# Altium schematic symbol library MCU_ST_STM32U5.SchLib: 162 symbols (part 5 of 5)
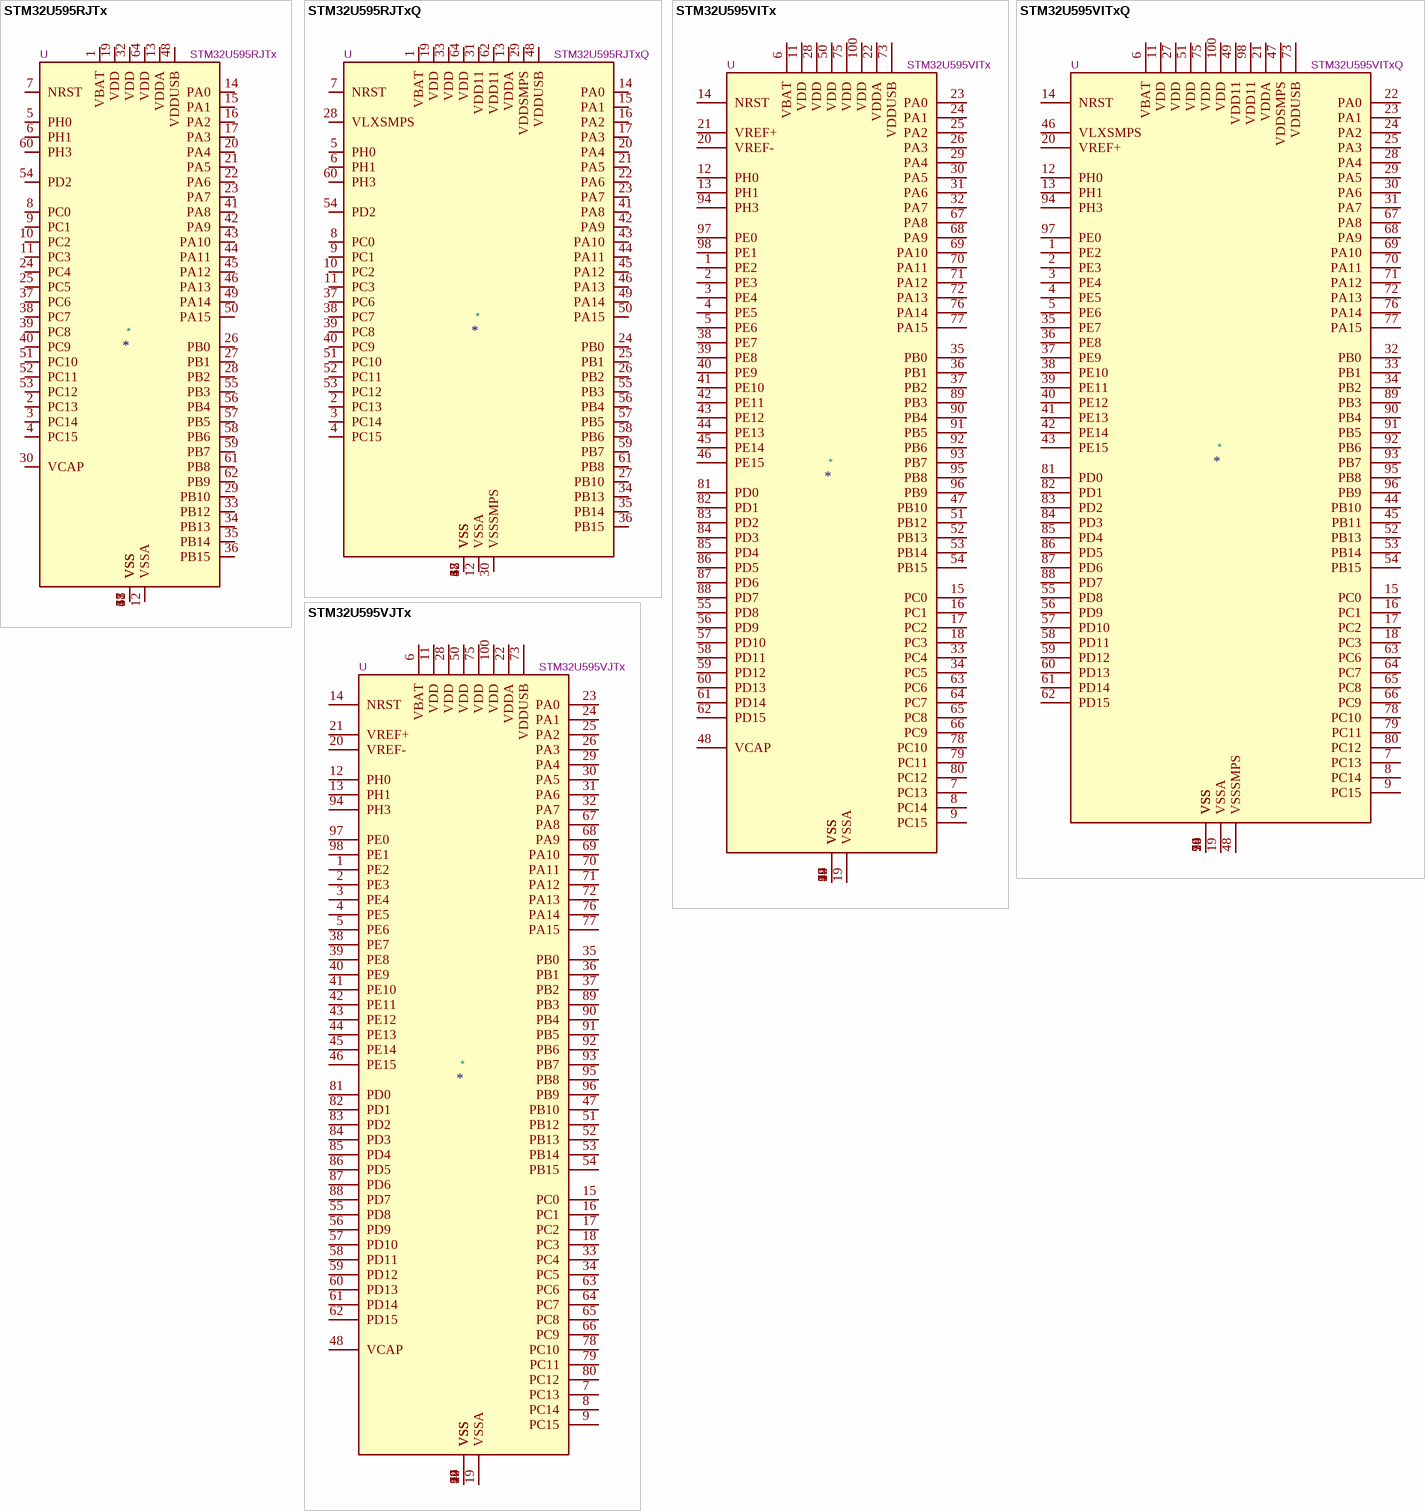
[diagram p44: symbols STM32U595RJTx to STM32U595VJTx]

## STM32U595VJTx
designator *  value STM32U595VJTx  Reference: U
STMicroelectronics Arm Cortex-M33 MCU, 4096KB flash, 2514KB RAM, 82 GPIO, LQFP100; ki_keywords: Arm Cortex-M33 STM32U5 STM32U5x5; ki_fp_filters: LQFP*14x14mm*P0.5mm*; Footprint: Package_QFP:LQFP-100_14x14mm_P0.5mm; Datasheet: https://www.st.com/resource/en/datasheet/stm32u595vj.pdf; Description_: STMicroelectronics Arm Cortex-M33 MCU, 4096KB flash, 2514KB RAM, 82 GPIO, LQFP100
pins: 1 PE2, 2 PE3, 3 PE4, 4 PE5, 5 PE6, 6 VBAT, 7 PC13, 8 PC14, 9 PC15, 10 VSS, 11 VDD, 12 PH0, 13 PH1, 14 NRST, 15 PC0, 16 PC1, 17 PC2, 18 PC3, 19 VSSA, 20 VREF-, 21 VREF+, 22 VDDA, 23 PA0, 24 PA1, 25 PA2, 26 PA3, 27 VSS, 28 VDD, 29 PA4, 30 PA5, 31 PA6, 32 PA7, 33 PC4, 34 PC5, 35 PB0, 36 PB1, 37 PB2, 38 PE7, 39 PE8, 40 PE9, 41 PE10, 42 PE11, 43 PE12, 44 PE13, 45 PE14, 46 PE15, 47 PB10, 48 VCAP, 49 VSS, 50 VDD, 51 PB12, 52 PB13, 53 PB14, 54 PB15, 55 PD8, 56 PD9, 57 PD10, 58 PD11, 59 PD12, 60 PD13, 61 PD14, 62 PD15, 63 PC6, 64 PC7, 65 PC8, 66 PC9, 67 PA8, 68 PA9, 69 PA10, 70 PA11, 71 PA12, 72 PA13, 73 VDDUSB, 74 VSS, 75 VDD, 76 PA14, 77 PA15, 78 PC10, 79 PC11, 80 PC12, 81 PD0, 82 PD1, 83 PD2, 84 PD3, 85 PD4, 86 PD5, 87 PD6, 88 PD7, 89 PB3, 90 PB4, 91 PB5, 92 PB6, 93 PB7, 94 PH3, 95 PB8, 96 PB9, 97 PE0, 98 PE1, 99 VSS, 100 VDD

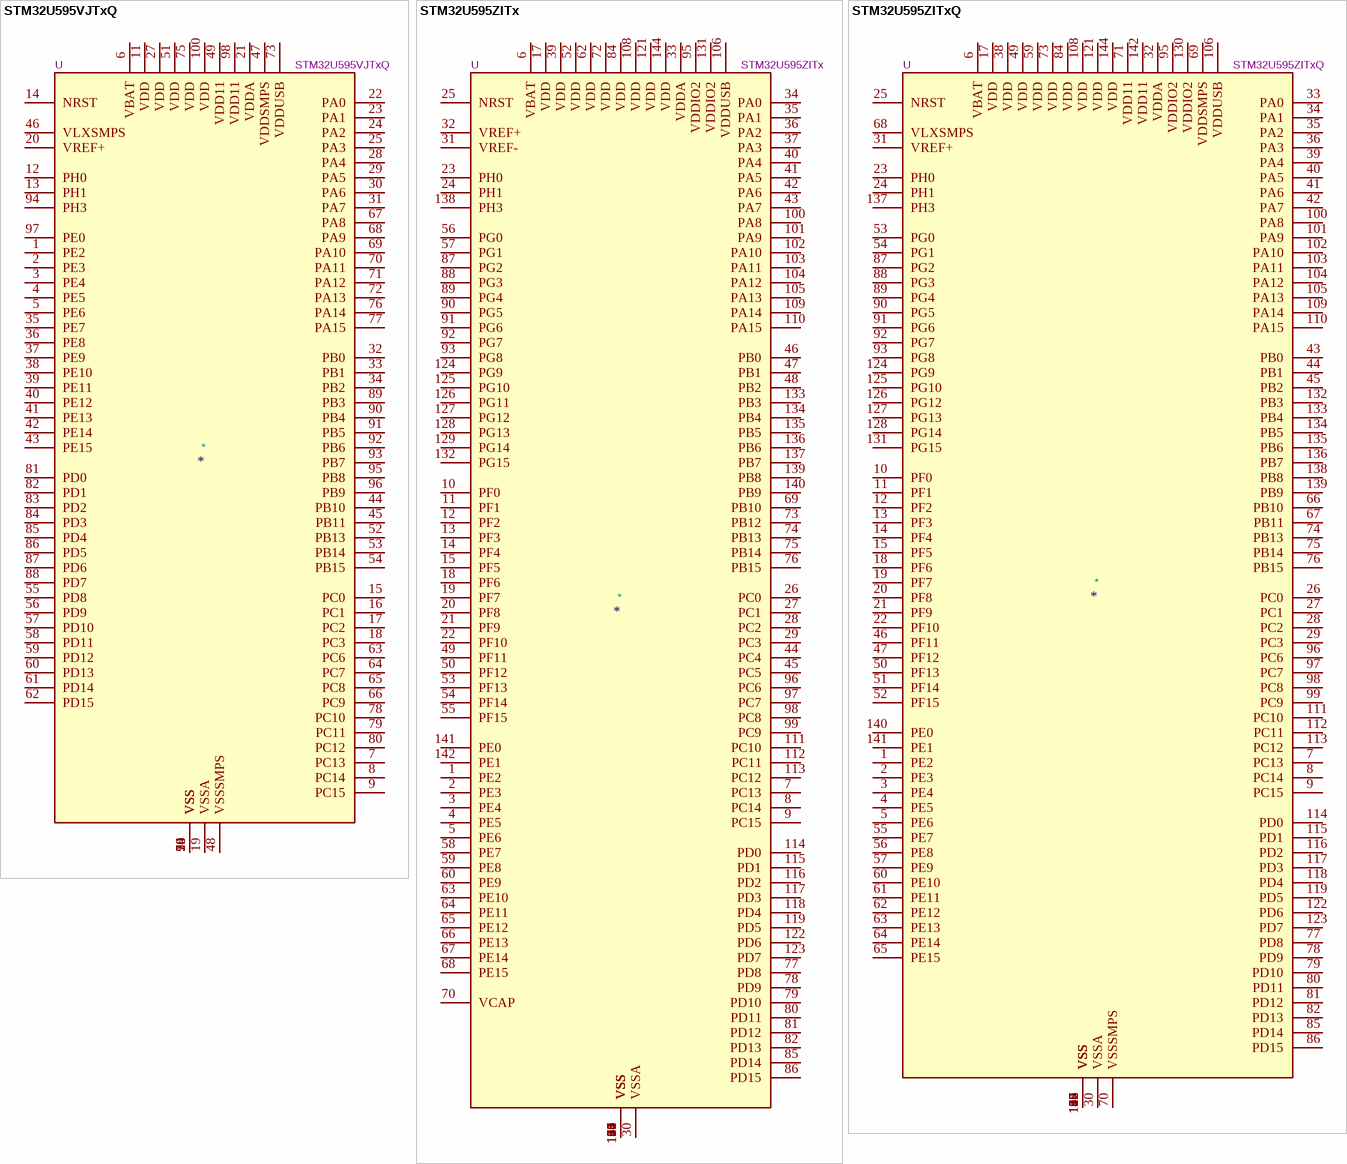
[diagram p34: symbols STM32U595VJTxQ to STM32U595ZITxQ]

## STM32U595VJTxQ
designator *  value STM32U595VJTxQ  Reference: U
STMicroelectronics Arm Cortex-M33 MCU, 4096KB flash, 2514KB RAM, 79 GPIO, LQFP100; ki_keywords: Arm Cortex-M33 STM32U5 STM32U5x5; ki_fp_filters: LQFP*14x14mm*P0.5mm*; Footprint: Package_QFP:LQFP-100_14x14mm_P0.5mm; Datasheet: https://www.st.com/resource/en/datasheet/stm32u595vj.pdf; Description_: STMicroelectronics Arm Cortex-M33 MCU, 4096KB flash, 2514KB RAM, 79 GPIO, LQFP100
pins: 1 PE2, 2 PE3, 3 PE4, 4 PE5, 5 PE6, 6 VBAT, 7 PC13, 8 PC14, 9 PC15, 10 VSS, 11 VDD, 12 PH0, 13 PH1, 14 NRST, 15 PC0, 16 PC1, 17 PC2, 18 PC3, 19 VSSA, 20 VREF+, 21 VDDA, 22 PA0, 23 PA1, 24 PA2, 25 PA3, 26 VSS, 27 VDD, 28 PA4, 29 PA5, 30 PA6, 31 PA7, 32 PB0, 33 PB1, 34 PB2, 35 PE7, 36 PE8, 37 PE9, 38 PE10, 39 PE11, 40 PE12, 41 PE13, 42 PE14, 43 PE15, 44 PB10, 45 PB11, 46 VLXSMPS, 47 VDDSMPS, 48 VSSSMPS, 49 VDD11, 50 VSS, 51 VDD, 52 PB13, 53 PB14, 54 PB15, 55 PD8, 56 PD9, 57 PD10, 58 PD11, 59 PD12, 60 PD13, 61 PD14, 62 PD15, 63 PC6, 64 PC7, 65 PC8, 66 PC9, 67 PA8, 68 PA9, 69 PA10, 70 PA11, 71 PA12, 72 PA13, 73 VDDUSB, 74 VSS, 75 VDD, 76 PA14, 77 PA15, 78 PC10, 79 PC11, 80 PC12, 81 PD0, 82 PD1, 83 PD2, 84 PD3, 85 PD4, 86 PD5, 87 PD6, 88 PD7, 89 PB3, 90 PB4, 91 PB5, 92 PB6, 93 PB7, 94 PH3, 95 PB8, 96 PB9, 97 PE0, 98 VDD11, 99 VSS, 100 VDD

## STM32U595ZITx
designator *  value STM32U595ZITx  Reference: U
STMicroelectronics Arm Cortex-M33 MCU, 2048KB flash, 2514KB RAM, 114 GPIO, LQFP144; ki_keywords: Arm Cortex-M33 STM32U5 STM32U5x5; ki_fp_filters: LQFP*20x20mm*P0.5mm*; Footprint: Package_QFP:LQFP-144_20x20mm_P0.5mm; Datasheet: https://www.st.com/resource/en/datasheet/stm32u595zi.pdf; Description_: STMicroelectronics Arm Cortex-M33 MCU, 2048KB flash, 2514KB RAM, 114 GPIO, LQFP144
pins: 1 PE2, 2 PE3, 3 PE4, 4 PE5, 5 PE6, 6 VBAT, 7 PC13, 8 PC14, 9 PC15, 10 PF0, 11 PF1, 12 PF2, 13 PF3, 14 PF4, 15 PF5, 16 VSS, 17 VDD, 18 PF6, 19 PF7, 20 PF8, 21 PF9, 22 PF10, 23 PH0, 24 PH1, 25 NRST, 26 PC0, 27 PC1, 28 PC2, 29 PC3, 30 VSSA, 31 VREF-, 32 VREF+, 33 VDDA, 34 PA0, 35 PA1, 36 PA2, 37 PA3, 38 VSS, 39 VDD, 40 PA4, 41 PA5, 42 PA6, 43 PA7, 44 PC4, 45 PC5, 46 PB0, 47 PB1, 48 PB2, 49 PF11, 50 PF12, 51 VSS, 52 VDD, 53 PF13, 54 PF14, 55 PF15, 56 PG0, 57 PG1, 58 PE7, 59 PE8, 60 PE9, 61 VSS, 62 VDD, 63 PE10, 64 PE11, 65 PE12, 66 PE13, 67 PE14, 68 PE15, 69 PB10, 70 VCAP, 71 VSS, 72 VDD, 73 PB12, 74 PB13, 75 PB14, 76 PB15, 77 PD8, 78 PD9, 79 PD10, 80 PD11, 81 PD12, 82 PD13, 83 VSS, 84 VDD, 85 PD14, 86 PD15, 87 PG2, 88 PG3, 89 PG4, 90 PG5, 91 PG6, 92 PG7, 93 PG8, 94 VSS, 95 VDDIO2, 96 PC6, 97 PC7, 98 PC8, 99 PC9, 100 PA8, 101 PA9, 102 PA10, 103 PA11, 104 PA12, 105 PA13, 106 VDDUSB, 107 VSS, 108 VDD, 109 PA14, 110 PA15, 111 PC10, 112 PC11, 113 PC12, 114 PD0, 115 PD1, 116 PD2, 117 PD3, 118 PD4, 119 PD5, 120 VSS, 121 VDD, 122 PD6, 123 PD7, 124 PG9, 125 PG10, 126 PG11, 127 PG12, 128 PG13, 129 PG14, 130 VSS, 131 VDDIO2, 132 PG15, 133 PB3, 134 PB4, 135 PB5, 136 PB6, 137 PB7, 138 PH3, 139 PB8, 140 PB9, 141 PE0, 142 PE1, 143 VSS, 144 VDD

## STM32U595ZITxQ
designator *  value STM32U595ZITxQ  Reference: U
STMicroelectronics Arm Cortex-M33 MCU, 2048KB flash, 2514KB RAM, 111 GPIO, LQFP144; ki_keywords: Arm Cortex-M33 STM32U5 STM32U5x5; ki_fp_filters: LQFP*20x20mm*P0.5mm*; Footprint: Package_QFP:LQFP-144_20x20mm_P0.5mm; Datasheet: https://www.st.com/resource/en/datasheet/stm32u595zi.pdf; Description_: STMicroelectronics Arm Cortex-M33 MCU, 2048KB flash, 2514KB RAM, 111 GPIO, LQFP144
pins: 1 PE2, 2 PE3, 3 PE4, 4 PE5, 5 PE6, 6 VBAT, 7 PC13, 8 PC14, 9 PC15, 10 PF0, 11 PF1, 12 PF2, 13 PF3, 14 PF4, 15 PF5, 16 VSS, 17 VDD, 18 PF6, 19 PF7, 20 PF8, 21 PF9, 22 PF10, 23 PH0, 24 PH1, 25 NRST, 26 PC0, 27 PC1, 28 PC2, 29 PC3, 30 VSSA, 31 VREF+, 32 VDDA, 33 PA0, 34 PA1, 35 PA2, 36 PA3, 37 VSS, 38 VDD, 39 PA4, 40 PA5, 41 PA6, 42 PA7, 43 PB0, 44 PB1, 45 PB2, 46 PF11, 47 PF12, 48 VSS, 49 VDD, 50 PF13, 51 PF14, 52 PF15, 53 PG0, 54 PG1, 55 PE7, 56 PE8, 57 PE9, 58 VSS, 59 VDD, 60 PE10, 61 PE11, 62 PE12, 63 PE13, 64 PE14, 65 PE15, 66 PB10, 67 PB11, 68 VLXSMPS, 69 VDDSMPS, 70 VSSSMPS, 71 VDD11, 72 VSS, 73 VDD, 74 PB13, 75 PB14, 76 PB15, 77 PD8, 78 PD9, 79 PD10, 80 PD11, 81 PD12, 82 PD13, 83 VSS, 84 VDD, 85 PD14, 86 PD15, 87 PG2, 88 PG3, 89 PG4, 90 PG5, 91 PG6, 92 PG7, 93 PG8, 94 VSS, 95 VDDIO2, 96 PC6, 97 PC7, 98 PC8, 99 PC9, 100 PA8, 101 PA9, 102 PA10, 103 PA11, 104 PA12, 105 PA13, 106 VDDUSB, 107 VSS, 108 VDD, 109 PA14, 110 PA15, 111 PC10, 112 PC11, 113 PC12, 114 PD0, 115 PD1, 116 PD2, 117 PD3, 118 PD4, 119 PD5, 120 VSS, 121 VDD, 122 PD6, 123 PD7, 124 PG9, 125 PG10, 126 PG12, 127 PG13, 128 PG14, 129 VSS, 130 VDDIO2, 131 PG15, 132 PB3, 133 PB4, 134 PB5, 135 PB6, 136 PB7, 137 PH3, 138 PB8, 139 PB9, 140 PE0, 141 PE1, 142 VDD11, 143 VSS, 144 VDD

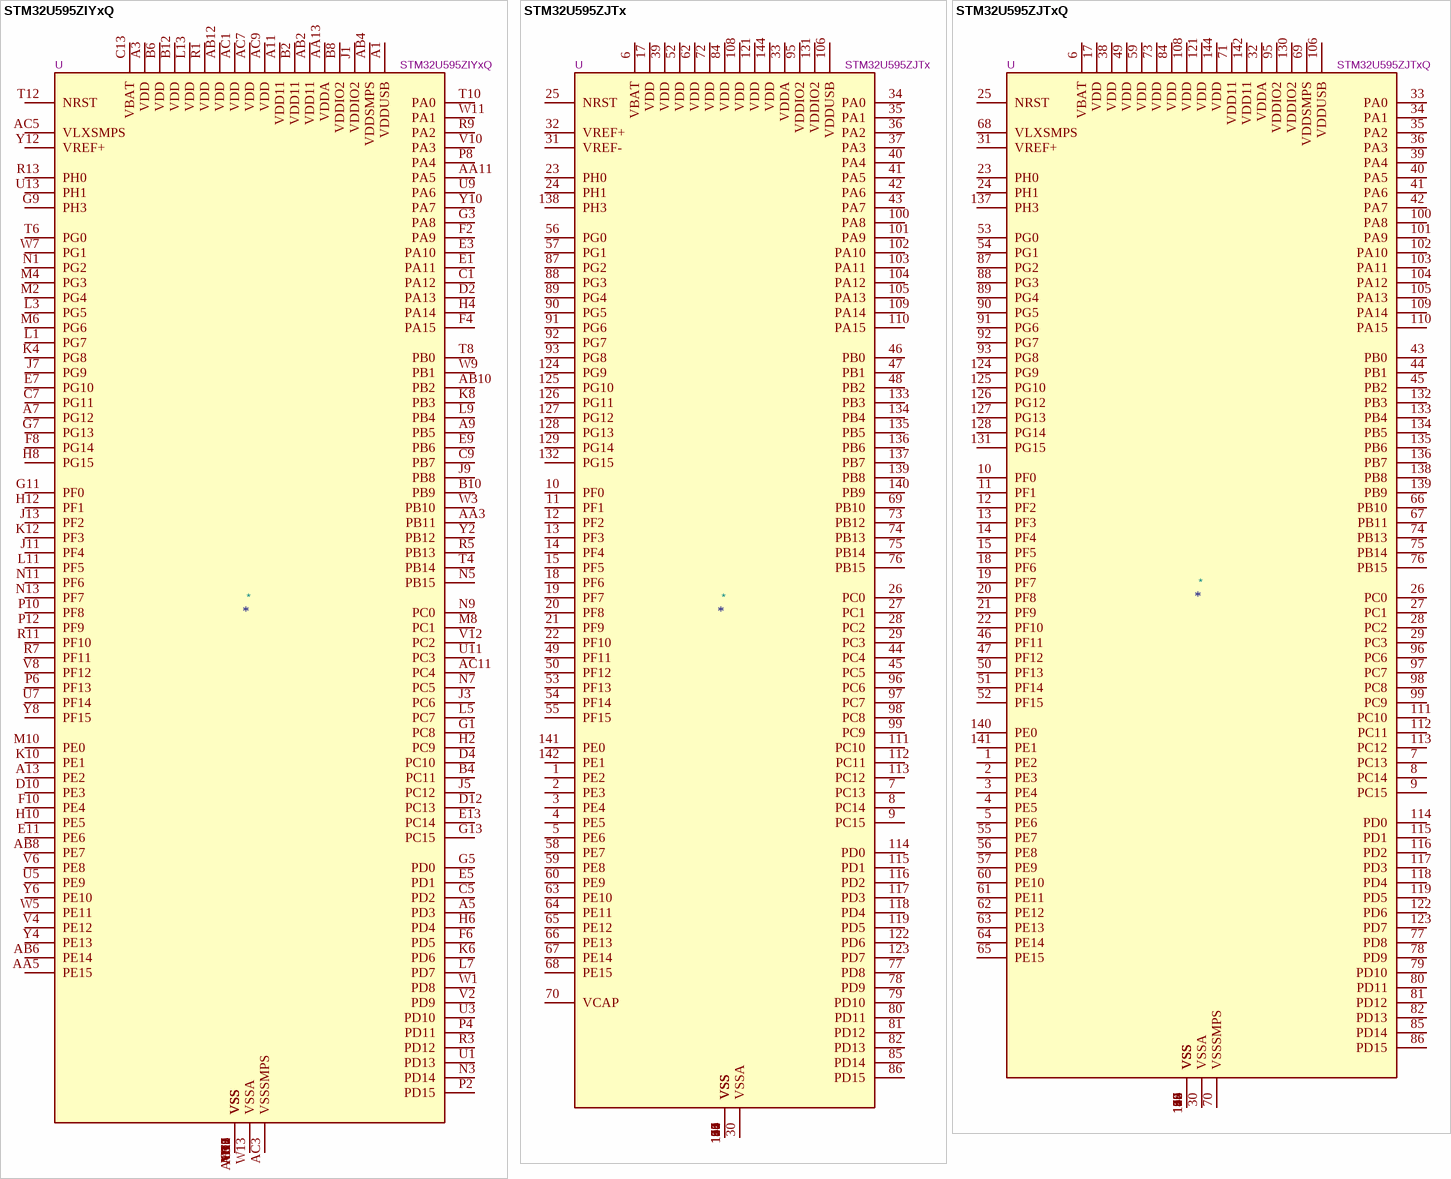
[diagram p35: symbols STM32U595ZIYxQ to STM32U595ZJTxQ]

## STM32U595ZIYxQ
designator *  value STM32U595ZIYxQ  Reference: U
STMicroelectronics Arm Cortex-M33 MCU, 2048KB flash, 2514KB RAM, 115 GPIO, WLCSP150; ki_keywords: Arm Cortex-M33 STM32U5 STM32U5x5; ki_fp_filters: ST*WLCSP*5.38x5.47mm*Layout13x23*P0.4mm*Stagger*; Footprint: Package_CSP:ST_WLCSP-150_5.38x5.47mm_Layout13x23_P0.4mm_Stagger; Datasheet: https://www.st.com/resource/en/datasheet/stm32u595zi.pdf; Description_: STMicroelectronics Arm Cortex-M33 MCU, 2048KB flash, 2514KB RAM, 115 GPIO, WLCSP150
pins: A1 VDDUSB, A3 VDD, A5 PD3, A7 PG12, A9 PB5, A11 VDD11, A13 PE2, AA1 VSS, AA3 PB11, AA5 PE15, AA7 VSS, AA9 VSS, AA11 PA5, AA13 VDDA, AB2 VDD11, AB4 VDDSMPS, AB6 PE14, AB8 PE7, AB10 PB2, AB12 VDD, AC1 VDD, AC3 VSSSMPS, AC5 VLXSMPS, AC7 VDD, AC9 VDD, AC11 PC4, AC13 VSS, B2 VDD11, B4 PC11, B6 VDD, B8 VDDIO2, B10 PB9, B12 VDD, C1 PA12, C3 VSS, C5 PD2, C7 PG11, C9 PB7, C11 VSS, C13 VBAT, D2 PA13, D4 PC10, D6 VSS, D8 VSS, D10 PE3, D12 PC13, E1 PA11, E3 PA10, E5 PD1, E7 PG10, E9 PB6, E11 PE6, E13 PC14, F2 PA9, F4 PA15, F6 PD5, F8 PG14, F10 PE4, F12 VSS, G1 PC8, G3 PA8, G5 PD0, G7 PG13, G9 PH3, G11 PF0, G13 PC15, H2 PC9, H4 PA14, H6 PD4, H8 PG15, H10 PE5, H12 PF1, J1 VDDIO2, J3 PC6, J5 PC12, J7 PG9, J9 PB8, J11 PF4, J13 PF2, K2 VSS, K4 PG8, K6 PD6, K8 PB3, K10 PE1, K12 PF3, L1 PG7, L3 PG5, L5 PC7, L7 PD7, L9 PB4, L11 PF5, L13 VDD, M2 PG4, M4 PG3, M6 PG6, M8 PC1, M10 PE0, M12 VSS, N1 PG2, N3 PD14, N5 PB15, N7 PC5, N9 PC0, N11 PF6, N13 PF7, P2 PD15, P4 PD11, P6 PF13, P8 PA4, P10 PF8, P12 PF9, R1 VDD, R3 PD12, R5 PB13, R7 PF11, R9 PA2, R11 PF10, R13 PH0, T2 VSS, T4 PB14, T6 PG0, T8 PB0, T10 PA0, T12 NRST, U1 PD13, U3 PD10, U5 PE9, U7 PF14, U9 PA6, U11 PC3, U13 PH1, V2 PD9, V4 PE12, V6 PE8, V8 PF12, V10 PA3, V12 PC2, W1 PD8, W3 PB10, W5 PE11, W7 PG1, W9 PB1, W11 PA1, W13 VSSA, Y2 PB12, Y4 PE13, Y6 PE10, Y8 PF15, Y10 PA7, Y12 VREF+

## STM32U595ZJTx
designator *  value STM32U595ZJTx  Reference: U
STMicroelectronics Arm Cortex-M33 MCU, 4096KB flash, 2514KB RAM, 160 MHz, 1.71-3.6V, 114 GPIO, LQFP144; ki_keywords: Arm Cortex-M33 STM32U5 STM32U595/5A5; ki_fp_filters: LQFP*20x20mm*P0.5mm*; Footprint: Package_QFP:LQFP-144_20x20mm_P0.5mm; Datasheet: https://www.st.com/resource/en/datasheet/stm32u595zj.pdf; Description_: STMicroelectronics Arm Cortex-M33 MCU, 4096KB flash, 2514KB RAM, 160 MHz, 1.71-3.6V, 114 GPIO, LQFP144
pins: 1 PE2, 2 PE3, 3 PE4, 4 PE5, 5 PE6, 6 VBAT, 7 PC13, 8 PC14, 9 PC15, 10 PF0, 11 PF1, 12 PF2, 13 PF3, 14 PF4, 15 PF5, 16 VSS, 17 VDD, 18 PF6, 19 PF7, 20 PF8, 21 PF9, 22 PF10, 23 PH0, 24 PH1, 25 NRST, 26 PC0, 27 PC1, 28 PC2, 29 PC3, 30 VSSA, 31 VREF-, 32 VREF+, 33 VDDA, 34 PA0, 35 PA1, 36 PA2, 37 PA3, 38 VSS, 39 VDD, 40 PA4, 41 PA5, 42 PA6, 43 PA7, 44 PC4, 45 PC5, 46 PB0, 47 PB1, 48 PB2, 49 PF11, 50 PF12, 51 VSS, 52 VDD, 53 PF13, 54 PF14, 55 PF15, 56 PG0, 57 PG1, 58 PE7, 59 PE8, 60 PE9, 61 VSS, 62 VDD, 63 PE10, 64 PE11, 65 PE12, 66 PE13, 67 PE14, 68 PE15, 69 PB10, 70 VCAP, 71 VSS, 72 VDD, 73 PB12, 74 PB13, 75 PB14, 76 PB15, 77 PD8, 78 PD9, 79 PD10, 80 PD11, 81 PD12, 82 PD13, 83 VSS, 84 VDD, 85 PD14, 86 PD15, 87 PG2, 88 PG3, 89 PG4, 90 PG5, 91 PG6, 92 PG7, 93 PG8, 94 VSS, 95 VDDIO2, 96 PC6, 97 PC7, 98 PC8, 99 PC9, 100 PA8, 101 PA9, 102 PA10, 103 PA11, 104 PA12, 105 PA13, 106 VDDUSB, 107 VSS, 108 VDD, 109 PA14, 110 PA15, 111 PC10, 112 PC11, 113 PC12, 114 PD0, 115 PD1, 116 PD2, 117 PD3, 118 PD4, 119 PD5, 120 VSS, 121 VDD, 122 PD6, 123 PD7, 124 PG9, 125 PG10, 126 PG11, 127 PG12, 128 PG13, 129 PG14, 130 VSS, 131 VDDIO2, 132 PG15, 133 PB3, 134 PB4, 135 PB5, 136 PB6, 137 PB7, 138 PH3, 139 PB8, 140 PB9, 141 PE0, 142 PE1, 143 VSS, 144 VDD

## STM32U595ZJTxQ
designator *  value STM32U595ZJTxQ  Reference: U
STMicroelectronics Arm Cortex-M33 MCU, 4096KB flash, 2514KB RAM, 160 MHz, 1.71-3.6V, 111 GPIO, LQFP144; ki_keywords: Arm Cortex-M33 STM32U5 STM32U595/5A5; ki_fp_filters: LQFP*20x20mm*P0.5mm*; Footprint: Package_QFP:LQFP-144_20x20mm_P0.5mm; Datasheet: https://www.st.com/resource/en/datasheet/stm32u595zj.pdf; Description_: STMicroelectronics Arm Cortex-M33 MCU, 4096KB flash, 2514KB RAM, 160 MHz, 1.71-3.6V, 111 GPIO, LQFP144
pins: 1 PE2, 2 PE3, 3 PE4, 4 PE5, 5 PE6, 6 VBAT, 7 PC13, 8 PC14, 9 PC15, 10 PF0, 11 PF1, 12 PF2, 13 PF3, 14 PF4, 15 PF5, 16 VSS, 17 VDD, 18 PF6, 19 PF7, 20 PF8, 21 PF9, 22 PF10, 23 PH0, 24 PH1, 25 NRST, 26 PC0, 27 PC1, 28 PC2, 29 PC3, 30 VSSA, 31 VREF+, 32 VDDA, 33 PA0, 34 PA1, 35 PA2, 36 PA3, 37 VSS, 38 VDD, 39 PA4, 40 PA5, 41 PA6, 42 PA7, 43 PB0, 44 PB1, 45 PB2, 46 PF11, 47 PF12, 48 VSS, 49 VDD, 50 PF13, 51 PF14, 52 PF15, 53 PG0, 54 PG1, 55 PE7, 56 PE8, 57 PE9, 58 VSS, 59 VDD, 60 PE10, 61 PE11, 62 PE12, 63 PE13, 64 PE14, 65 PE15, 66 PB10, 67 PB11, 68 VLXSMPS, 69 VDDSMPS, 70 VSSSMPS, 71 VDD11, 72 VSS, 73 VDD, 74 PB13, 75 PB14, 76 PB15, 77 PD8, 78 PD9, 79 PD10, 80 PD11, 81 PD12, 82 PD13, 83 VSS, 84 VDD, 85 PD14, 86 PD15, 87 PG2, 88 PG3, 89 PG4, 90 PG5, 91 PG6, 92 PG7, 93 PG8, 94 VSS, 95 VDDIO2, 96 PC6, 97 PC7, 98 PC8, 99 PC9, 100 PA8, 101 PA9, 102 PA10, 103 PA11, 104 PA12, 105 PA13, 106 VDDUSB, 107 VSS, 108 VDD, 109 PA14, 110 PA15, 111 PC10, 112 PC11, 113 PC12, 114 PD0, 115 PD1, 116 PD2, 117 PD3, 118 PD4, 119 PD5, 120 VSS, 121 VDD, 122 PD6, 123 PD7, 124 PG9, 125 PG10, 126 PG12, 127 PG13, 128 PG14, 129 VSS, 130 VDDIO2, 131 PG15, 132 PB3, 133 PB4, 134 PB5, 135 PB6, 136 PB7, 137 PH3, 138 PB8, 139 PB9, 140 PE0, 141 PE1, 142 VDD11, 143 VSS, 144 VDD

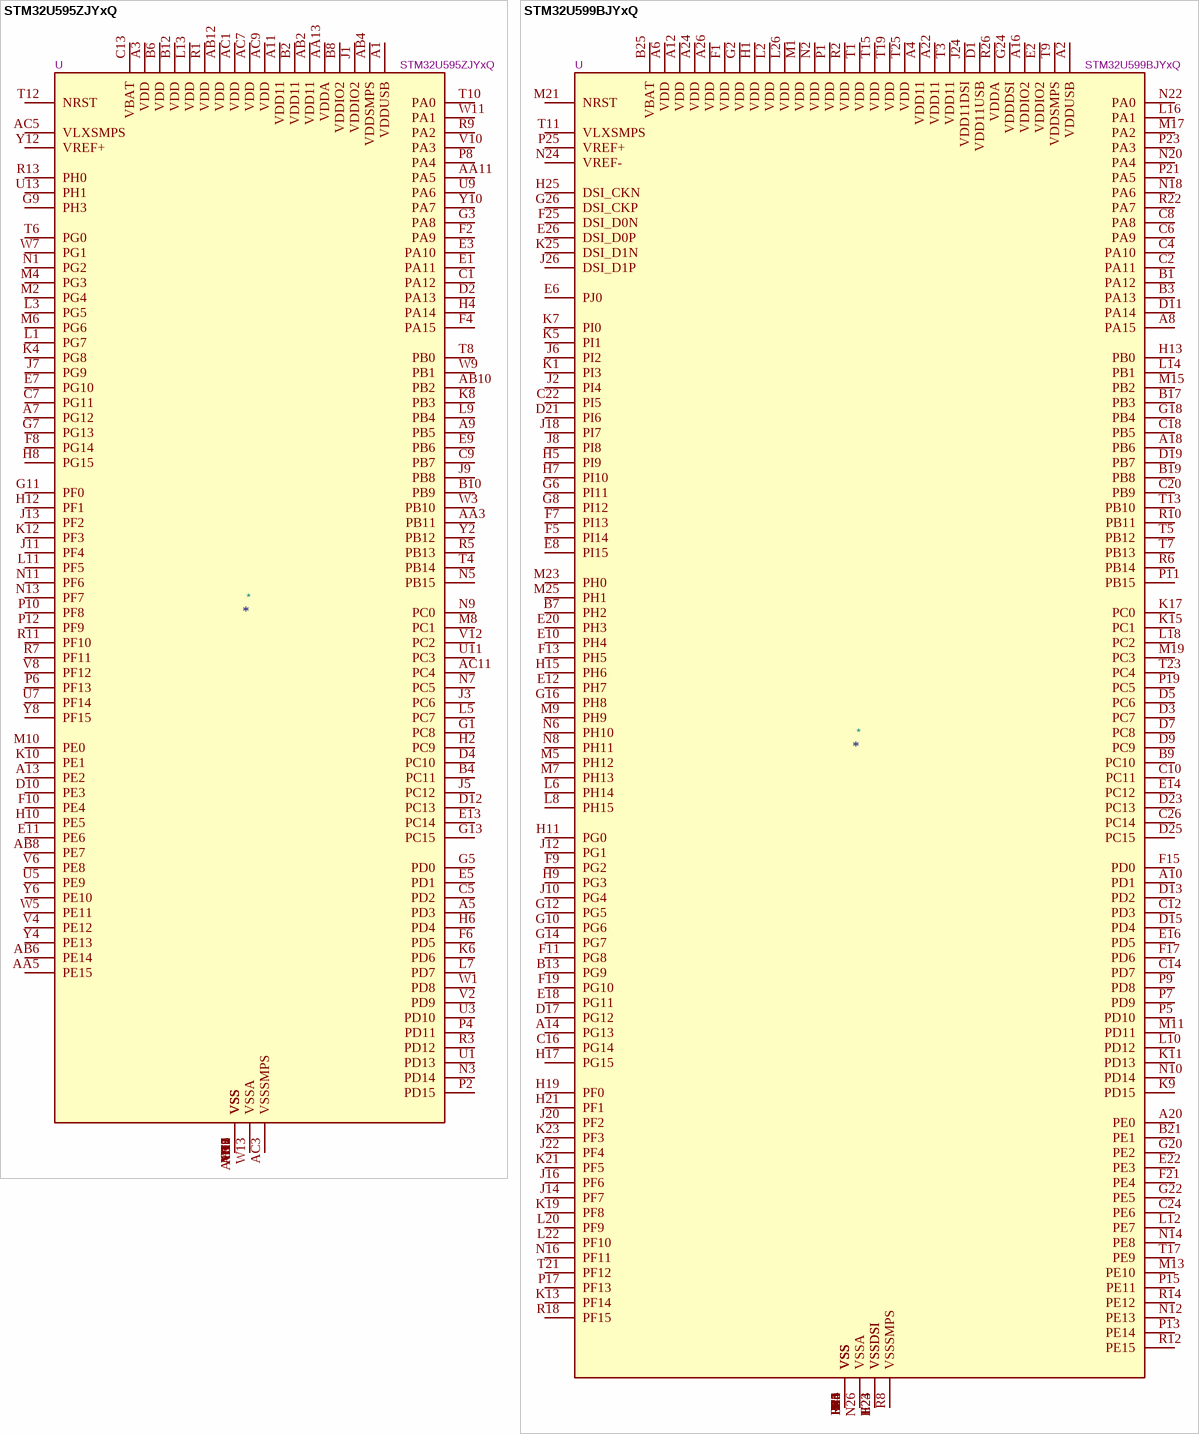
[diagram p36: symbols STM32U595ZJYxQ to STM32U599BJYxQ]

## STM32U595ZJYxQ
designator *  value STM32U595ZJYxQ  Reference: U
STMicroelectronics Arm Cortex-M33 MCU, 4096KB flash, 2514KB RAM, 115 GPIO, WLCSP150; ki_keywords: Arm Cortex-M33 STM32U5 STM32U5x5; ki_fp_filters: ST*WLCSP*5.38x5.47mm*Layout13x23*P0.4mm*Stagger*; Footprint: Package_CSP:ST_WLCSP-150_5.38x5.47mm_Layout13x23_P0.4mm_Stagger; Datasheet: https://www.st.com/resource/en/datasheet/stm32u595zj.pdf; Description_: STMicroelectronics Arm Cortex-M33 MCU, 4096KB flash, 2514KB RAM, 115 GPIO, WLCSP150
pins: A1 VDDUSB, A3 VDD, A5 PD3, A7 PG12, A9 PB5, A11 VDD11, A13 PE2, AA1 VSS, AA3 PB11, AA5 PE15, AA7 VSS, AA9 VSS, AA11 PA5, AA13 VDDA, AB2 VDD11, AB4 VDDSMPS, AB6 PE14, AB8 PE7, AB10 PB2, AB12 VDD, AC1 VDD, AC3 VSSSMPS, AC5 VLXSMPS, AC7 VDD, AC9 VDD, AC11 PC4, AC13 VSS, B2 VDD11, B4 PC11, B6 VDD, B8 VDDIO2, B10 PB9, B12 VDD, C1 PA12, C3 VSS, C5 PD2, C7 PG11, C9 PB7, C11 VSS, C13 VBAT, D2 PA13, D4 PC10, D6 VSS, D8 VSS, D10 PE3, D12 PC13, E1 PA11, E3 PA10, E5 PD1, E7 PG10, E9 PB6, E11 PE6, E13 PC14, F2 PA9, F4 PA15, F6 PD5, F8 PG14, F10 PE4, F12 VSS, G1 PC8, G3 PA8, G5 PD0, G7 PG13, G9 PH3, G11 PF0, G13 PC15, H2 PC9, H4 PA14, H6 PD4, H8 PG15, H10 PE5, H12 PF1, J1 VDDIO2, J3 PC6, J5 PC12, J7 PG9, J9 PB8, J11 PF4, J13 PF2, K2 VSS, K4 PG8, K6 PD6, K8 PB3, K10 PE1, K12 PF3, L1 PG7, L3 PG5, L5 PC7, L7 PD7, L9 PB4, L11 PF5, L13 VDD, M2 PG4, M4 PG3, M6 PG6, M8 PC1, M10 PE0, M12 VSS, N1 PG2, N3 PD14, N5 PB15, N7 PC5, N9 PC0, N11 PF6, N13 PF7, P2 PD15, P4 PD11, P6 PF13, P8 PA4, P10 PF8, P12 PF9, R1 VDD, R3 PD12, R5 PB13, R7 PF11, R9 PA2, R11 PF10, R13 PH0, T2 VSS, T4 PB14, T6 PG0, T8 PB0, T10 PA0, T12 NRST, U1 PD13, U3 PD10, U5 PE9, U7 PF14, U9 PA6, U11 PC3, U13 PH1, V2 PD9, V4 PE12, V6 PE8, V8 PF12, V10 PA3, V12 PC2, W1 PD8, W3 PB10, W5 PE11, W7 PG1, W9 PB1, W11 PA1, W13 VSSA, Y2 PB12, Y4 PE13, Y6 PE10, Y8 PF15, Y10 PA7, Y12 VREF+

## STM32U599BJYxQ
designator *  value STM32U599BJYxQ  Reference: U
STMicroelectronics Arm Cortex-M33 MCU, 4096KB flash, 2514KB RAM, 160 MHz, 1.71-3.6V, 145 GPIO, WLCSP208; ki_keywords: Arm Cortex-M33 STM32U5 STM32U599/5A9; ki_fp_filters: ST*WLCSP*5.38x5.47mm*Layout26x16*P0.35mm*Stagger*; Footprint: Package_CSP:ST_WLCSP-208_5.38x5.47mm_Layout26x16_P0.35mm_Stagger; Datasheet: https://www.st.com/resource/en/datasheet/stm32u599bj.pdf; Description_: STMicroelectronics Arm Cortex-M33 MCU, 4096KB flash, 2514KB RAM, 160 MHz, 1.71-3.6V, 145 GPIO, WLCSP208
pins: A2 VDDUSB, A4 VDD11, A6 VDD, A8 PA15, A10 PD1, A12 VDD, A14 PG13, A16 VDDIO2, A18 PB6, A20 PE0, A22 VDD11, A24 VDD, A26 VDD, B1 PA12, B3 PA13, B5 VSS, B7 PH2, B9 PC10, B11 VSS, B13 PG9, B15 VSS, B17 PB3, B19 PB8, B21 PE1, B23 VSS, B25 VBAT, C2 PA11, C4 PA10, C6 PA9, C8 PA8, C10 PC11, C12 PD3, C14 PD7, C16 PG14, C18 PB5, C20 PB9, C22 PI5, C24 PE6, C26 PC14, D1 VDD11USB, D3 PC7, D5 PC6, D7 PC8, D9 PC9, D11 PA14, D13 PD2, D15 PD4, D17 PG12, D19 PB7, D21 PI6, D23 PC13, D25 PC15, E2 VDDIO2, E4 VSS, E6 PJ0, E8 PI15, E10 PH4, E12 PH7, E14 PC12, E16 PD5, E18 PG11, E20 PH3, E22 PE3, E24 VSSDSI, E26 DSI_D0P, F1 VDD, F3 VSS, F5 PI14, F7 PI13, F9 PG2, F11 PG8, F13 PH5, F15 PD0, F17 PD6, F19 PG10, F21 PE4, F23 VSSDSI, F25 DSI_D0N, G2 VDD, G4 VSS, G6 PI11, G8 PI12, G10 PG6, G12 PG5, G14 PG7, G16 PH8, G18 PB4, G20 PE2, G22 PE5, G24 VDDDSI, G26 DSI_CKP, H1 VDD, H3 VSS, H5 PI9, H7 PI10, H9 PG3, H11 PG0, H13 PB0, H15 PH6, H17 PG15, H19 PF0, H21 PF1, H23 VSSDSI, H25 DSI_CKN, J2 PI4, J4 VSS, J6 PI2, J8 PI8, J10 PG4, J12 PG1, J14 PF7, J16 PF6, J18 PI7, J20 PF2, J22 PF4, J24 VDD11DSI, J26 DSI_D1P, K1 PI3, K3 VSS, K5 PI1, K7 PI0, K9 PD15, K11 PD13, K13 PF14, K15 PC1, K17 PC0, K19 PF8, K21 PF5, K23 PF3, K25 DSI_D1N, L2 VDD, L4 VSS, L6 PH14, L8 PH15, L10 PD12, L12 PE7, L14 PB1, L16 PA1, L18 PC2, L20 PF9, L22 PF10, L24 VSS, L26 VDD, M1 VDD, M3 VSS, M5 PH12, M7 PH13, M9 PH9, M11 PD11, M13 PE10, M15 PB2, M17 PA2, M19 PC3, M21 NRST, M23 PH0, M25 PH1, N2 VDD, N4 VSS, N6 PH10, N8 PH11, N10 PD14, N12 PE13, N14 PE8, N16 PF11, N18 PA6, N20 PA4, N22 PA0, N24 VREF-, N26 VSSA, P1 VDD, P3 VSS, P5 PD10, P7 PD9, P9 PD8, P11 PB15, P13 PE14, P15 PE11, P17 PF13, P19 PC5, P21 PA5, P23 PA3, P25 VREF+, R2 VDD, R4 VSS, R6 PB14, R8 VSSSMPS, R10 PB11, R12 PE15, R14 PE12, R16 VSS, R18 PF15, R20 VSS, R22 PA7, R24 VSS, R26 VDDA, T1 VDD, T3 VDD11, T5 PB12, T7 PB13, T9 VDDSMPS, T11 VLXSMPS, T13 PB10, T15 VDD, T17 PE9, T19 VDD, T21 PF12, T23 PC4, T25 VDD

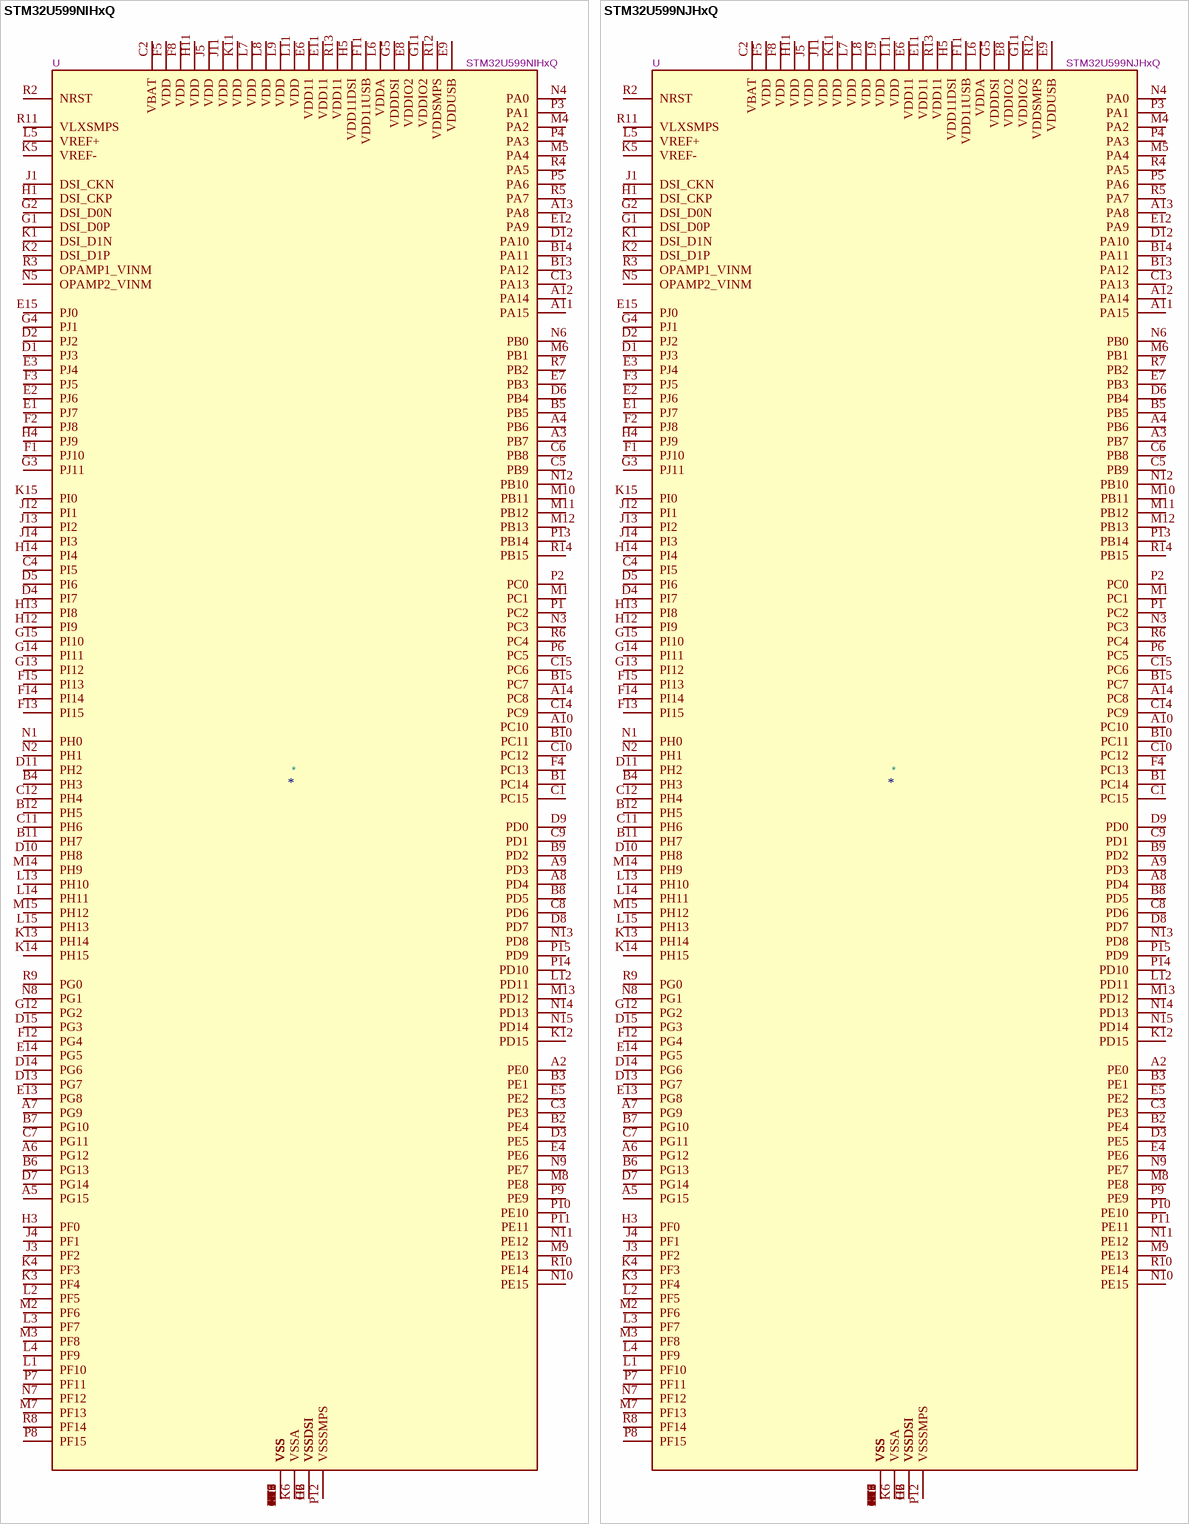
[diagram p37: symbols STM32U599NIHxQ to STM32U599NJHxQ]

## STM32U599NIHxQ
designator *  value STM32U599NIHxQ  Reference: U
STMicroelectronics Arm Cortex-M33 MCU, 2048KB flash, 2514KB RAM, 160 MHz, 1.71-3.6V, 156 GPIO, TFBGA216; ki_keywords: Arm Cortex-M33 STM32U5 STM32U599/5A9; ki_fp_filters: TFBGA*13x13mm*Layout15x15*P0.8mm*; Footprint: Package_BGA:TFBGA-216_13x13mm_Layout15x15_P0.8mm; Datasheet: https://www.st.com/resource/en/datasheet/stm32u599ni.pdf; Description_: STMicroelectronics Arm Cortex-M33 MCU, 2048KB flash, 2514KB RAM, 160 MHz, 1.71-3.6V, 156 GPIO, TFBGA216
pins: A1 VSS, A2 PE0, A3 PB7, A4 PB6, A5 PG15, A6 PG12, A7 PG9, A8 PD4, A9 PD3, A10 PC10, A11 PA15, A12 PA14, A13 PA8, A14 PC8, A15 VSS, B1 PC14, B2 PE4, B3 PE1, B4 PH3, B5 PB5, B6 PG13, B7 PG10, B8 PD5, B9 PD2, B10 PC11, B11 PH7, B12 PH5, B13 PA12, B14 PA11, B15 PC7, C1 PC15, C2 VBAT, C3 PE3, C4 PI5, C5 PB9, C6 PB8, C7 PG11, C8 PD6, C9 PD1, C10 PC12, C11 PH6, C12 PH4, C13 PA13, C14 PC9, C15 PC6, D1 PJ3, D2 PJ2, D3 PE5, D4 PI7, D5 PI6, D6 PB4, D7 PG14, D8 PD7, D9 PD0, D10 PH8, D11 PH2, D12 PA10, D13 PG7, D14 PG6, D15 PG3, E1 PJ7, E2 PJ6, E3 PJ4, E4 PE6, E5 PE2, E6 VDD11, E7 PB3, E8 VDDIO2, E9 VDDUSB, E10 VSS, E11 VDD11, E12 PA9, E13 PG8, E14 PG5, E15 PJ0, F1 PJ10, F2 PJ8, F3 PJ5, F4 PC13, F5 VDD, F6 VSS, F7 VSS, F8 VDD, F9 VSS, F10 VSS, F11 VDD11USB, F12 PG4, F13 PI15, F14 PI14, F15 PI13, G1 DSI_D0P, G2 DSI_D0N, G3 PJ11, G4 PJ1, G5 VDDDSI, G6 VSSDSI, G10 VSS, G11 VDDIO2, G12 PG2, G13 PI12, G14 PI11, G15 PI10, H1 DSI_CKP, H2 VSSDSI, H3 PF0, H4 PJ9, H5 VDD11DSI, H6 VSSDSI, H10 VSS, H11 VDD, H12 PI9, H13 PI8, H14 PI4, H15 VSS, J1 DSI_CKN, J2 VSSDSI, J3 PF2, J4 PF1, J5 VDD, J6 VSS, J10 VSS, J11 VDD, J12 PI1, J13 PI2, J14 PI3, J15 VSS, K1 DSI_D1N, K2 DSI_D1P, K3 PF4, K4 PF3, K5 VREF-, K6 VSSA, K7 VSS, K8 VSS, K9 VSS, K10 VSS, K11 VDD, K12 PD15, K13 PH14, K14 PH15, K15 PI0, L1 PF10, L2 PF5, L3 PF7, L4 PF9, L5 VREF+, L6 VDDA, L7 VDD, L8 VDD, L9 VDD, L10 VSS, L11 VDD, L12 PD11, L13 PH10, L14 PH11, L15 PH13, M1 PC1, M2 PF6, M3 PF8, M4 PA2, M5 PA4, M6 PB1, M7 PF13, M8 PE8, M9 PE13, M10 PB11, M11 PB12, M12 PB13, M13 PD12, M14 PH9, M15 PH12, N1 PH0, N2 PH1, N3 PC3, N4 PA0, N5 OPAMP2_VINM, N6 PB0, N7 PF12, N8 PG1, N9 PE7, N10 PE15, N11 PE12, N12 PB10, N13 PD8, N14 PD13, N15 PD14, P1 PC2, P2 PC0, P3 PA1, P4 PA3, P5 PA6, P6 PC5, P7 PF11, P8 PF15, P9 PE9, P10 PE10, P11 PE11, P12 VSSSMPS, P13 PB14, P14 PD10, P15 PD9, R1 VSS, R2 NRST, R3 OPAMP1_VINM, R4 PA5, R5 PA7, R6 PC4, R7 PB2, R8 PF14, R9 PG0, R10 PE14, R11 VLXSMPS, R12 VDDSMPS, R13 VDD11, R14 PB15, R15 VSS

## STM32U599NJHxQ
designator *  value STM32U599NJHxQ  Reference: U
STMicroelectronics Arm Cortex-M33 MCU, 4096KB flash, 2514KB RAM, 160 MHz, 1.71-3.6V, 156 GPIO, TFBGA216; ki_keywords: Arm Cortex-M33 STM32U5 STM32U599/5A9; ki_fp_filters: TFBGA*13x13mm*Layout15x15*P0.8mm*; Footprint: Package_BGA:TFBGA-216_13x13mm_Layout15x15_P0.8mm; Datasheet: https://www.st.com/resource/en/datasheet/stm32u599nj.pdf; Description_: STMicroelectronics Arm Cortex-M33 MCU, 4096KB flash, 2514KB RAM, 160 MHz, 1.71-3.6V, 156 GPIO, TFBGA216
pins: A1 VSS, A2 PE0, A3 PB7, A4 PB6, A5 PG15, A6 PG12, A7 PG9, A8 PD4, A9 PD3, A10 PC10, A11 PA15, A12 PA14, A13 PA8, A14 PC8, A15 VSS, B1 PC14, B2 PE4, B3 PE1, B4 PH3, B5 PB5, B6 PG13, B7 PG10, B8 PD5, B9 PD2, B10 PC11, B11 PH7, B12 PH5, B13 PA12, B14 PA11, B15 PC7, C1 PC15, C2 VBAT, C3 PE3, C4 PI5, C5 PB9, C6 PB8, C7 PG11, C8 PD6, C9 PD1, C10 PC12, C11 PH6, C12 PH4, C13 PA13, C14 PC9, C15 PC6, D1 PJ3, D2 PJ2, D3 PE5, D4 PI7, D5 PI6, D6 PB4, D7 PG14, D8 PD7, D9 PD0, D10 PH8, D11 PH2, D12 PA10, D13 PG7, D14 PG6, D15 PG3, E1 PJ7, E2 PJ6, E3 PJ4, E4 PE6, E5 PE2, E6 VDD11, E7 PB3, E8 VDDIO2, E9 VDDUSB, E10 VSS, E11 VDD11, E12 PA9, E13 PG8, E14 PG5, E15 PJ0, F1 PJ10, F2 PJ8, F3 PJ5, F4 PC13, F5 VDD, F6 VSS, F7 VSS, F8 VDD, F9 VSS, F10 VSS, F11 VDD11USB, F12 PG4, F13 PI15, F14 PI14, F15 PI13, G1 DSI_D0P, G2 DSI_D0N, G3 PJ11, G4 PJ1, G5 VDDDSI, G6 VSSDSI, G10 VSS, G11 VDDIO2, G12 PG2, G13 PI12, G14 PI11, G15 PI10, H1 DSI_CKP, H2 VSSDSI, H3 PF0, H4 PJ9, H5 VDD11DSI, H6 VSSDSI, H10 VSS, H11 VDD, H12 PI9, H13 PI8, H14 PI4, H15 VSS, J1 DSI_CKN, J2 VSSDSI, J3 PF2, J4 PF1, J5 VDD, J6 VSS, J10 VSS, J11 VDD, J12 PI1, J13 PI2, J14 PI3, J15 VSS, K1 DSI_D1N, K2 DSI_D1P, K3 PF4, K4 PF3, K5 VREF-, K6 VSSA, K7 VSS, K8 VSS, K9 VSS, K10 VSS, K11 VDD, K12 PD15, K13 PH14, K14 PH15, K15 PI0, L1 PF10, L2 PF5, L3 PF7, L4 PF9, L5 VREF+, L6 VDDA, L7 VDD, L8 VDD, L9 VDD, L10 VSS, L11 VDD, L12 PD11, L13 PH10, L14 PH11, L15 PH13, M1 PC1, M2 PF6, M3 PF8, M4 PA2, M5 PA4, M6 PB1, M7 PF13, M8 PE8, M9 PE13, M10 PB11, M11 PB12, M12 PB13, M13 PD12, M14 PH9, M15 PH12, N1 PH0, N2 PH1, N3 PC3, N4 PA0, N5 OPAMP2_VINM, N6 PB0, N7 PF12, N8 PG1, N9 PE7, N10 PE15, N11 PE12, N12 PB10, N13 PD8, N14 PD13, N15 PD14, P1 PC2, P2 PC0, P3 PA1, P4 PA3, P5 PA6, P6 PC5, P7 PF11, P8 PF15, P9 PE9, P10 PE10, P11 PE11, P12 VSSSMPS, P13 PB14, P14 PD10, P15 PD9, R1 VSS, R2 NRST, R3 OPAMP1_VINM, R4 PA5, R5 PA7, R6 PC4, R7 PB2, R8 PF14, R9 PG0, R10 PE14, R11 VLXSMPS, R12 VDDSMPS, R13 VDD11, R14 PB15, R15 VSS

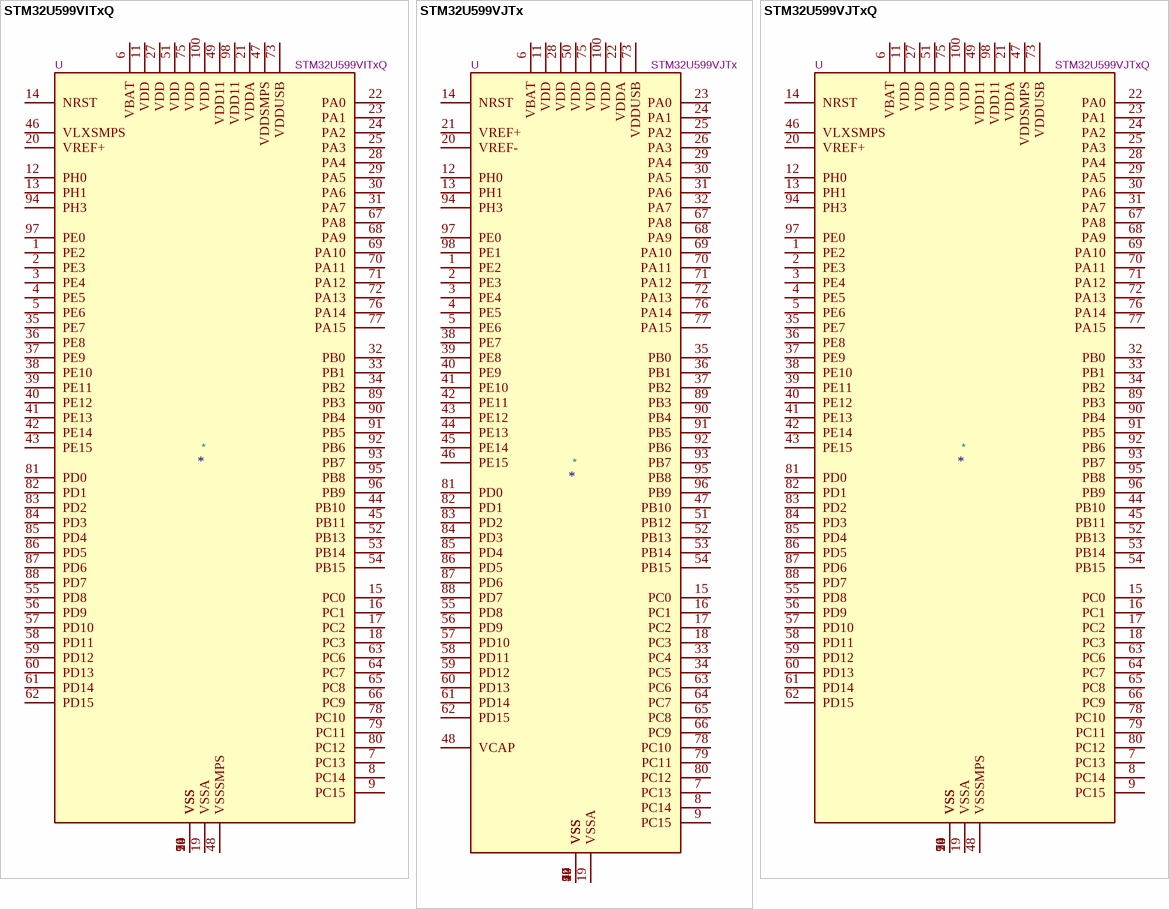
[diagram p38: symbols STM32U599VITxQ to STM32U599VJTxQ]

## STM32U599VITxQ
designator *  value STM32U599VITxQ  Reference: U
STMicroelectronics Arm Cortex-M33 MCU, 2048KB flash, 2514KB RAM, 79 GPIO, LQFP100; ki_keywords: Arm Cortex-M33 STM32U5 STM32U5x9; ki_fp_filters: LQFP*14x14mm*P0.5mm*; Footprint: Package_QFP:LQFP-100_14x14mm_P0.5mm; Datasheet: https://www.st.com/resource/en/datasheet/stm32u599vi.pdf; Description_: STMicroelectronics Arm Cortex-M33 MCU, 2048KB flash, 2514KB RAM, 79 GPIO, LQFP100
pins: 1 PE2, 2 PE3, 3 PE4, 4 PE5, 5 PE6, 6 VBAT, 7 PC13, 8 PC14, 9 PC15, 10 VSS, 11 VDD, 12 PH0, 13 PH1, 14 NRST, 15 PC0, 16 PC1, 17 PC2, 18 PC3, 19 VSSA, 20 VREF+, 21 VDDA, 22 PA0, 23 PA1, 24 PA2, 25 PA3, 26 VSS, 27 VDD, 28 PA4, 29 PA5, 30 PA6, 31 PA7, 32 PB0, 33 PB1, 34 PB2, 35 PE7, 36 PE8, 37 PE9, 38 PE10, 39 PE11, 40 PE12, 41 PE13, 42 PE14, 43 PE15, 44 PB10, 45 PB11, 46 VLXSMPS, 47 VDDSMPS, 48 VSSSMPS, 49 VDD11, 50 VSS, 51 VDD, 52 PB13, 53 PB14, 54 PB15, 55 PD8, 56 PD9, 57 PD10, 58 PD11, 59 PD12, 60 PD13, 61 PD14, 62 PD15, 63 PC6, 64 PC7, 65 PC8, 66 PC9, 67 PA8, 68 PA9, 69 PA10, 70 PA11, 71 PA12, 72 PA13, 73 VDDUSB, 74 VSS, 75 VDD, 76 PA14, 77 PA15, 78 PC10, 79 PC11, 80 PC12, 81 PD0, 82 PD1, 83 PD2, 84 PD3, 85 PD4, 86 PD5, 87 PD6, 88 PD7, 89 PB3, 90 PB4, 91 PB5, 92 PB6, 93 PB7, 94 PH3, 95 PB8, 96 PB9, 97 PE0, 98 VDD11, 99 VSS, 100 VDD

## STM32U599VJTx
designator *  value STM32U599VJTx  Reference: U
STMicroelectronics Arm Cortex-M33 MCU, 4096KB flash, 2514KB RAM, 82 GPIO, LQFP100; ki_keywords: Arm Cortex-M33 STM32U5 STM32U5x9; ki_fp_filters: LQFP*14x14mm*P0.5mm*; Footprint: Package_QFP:LQFP-100_14x14mm_P0.5mm; Datasheet: https://www.st.com/resource/en/datasheet/stm32u599vj.pdf; Description_: STMicroelectronics Arm Cortex-M33 MCU, 4096KB flash, 2514KB RAM, 82 GPIO, LQFP100
pins: 1 PE2, 2 PE3, 3 PE4, 4 PE5, 5 PE6, 6 VBAT, 7 PC13, 8 PC14, 9 PC15, 10 VSS, 11 VDD, 12 PH0, 13 PH1, 14 NRST, 15 PC0, 16 PC1, 17 PC2, 18 PC3, 19 VSSA, 20 VREF-, 21 VREF+, 22 VDDA, 23 PA0, 24 PA1, 25 PA2, 26 PA3, 27 VSS, 28 VDD, 29 PA4, 30 PA5, 31 PA6, 32 PA7, 33 PC4, 34 PC5, 35 PB0, 36 PB1, 37 PB2, 38 PE7, 39 PE8, 40 PE9, 41 PE10, 42 PE11, 43 PE12, 44 PE13, 45 PE14, 46 PE15, 47 PB10, 48 VCAP, 49 VSS, 50 VDD, 51 PB12, 52 PB13, 53 PB14, 54 PB15, 55 PD8, 56 PD9, 57 PD10, 58 PD11, 59 PD12, 60 PD13, 61 PD14, 62 PD15, 63 PC6, 64 PC7, 65 PC8, 66 PC9, 67 PA8, 68 PA9, 69 PA10, 70 PA11, 71 PA12, 72 PA13, 73 VDDUSB, 74 VSS, 75 VDD, 76 PA14, 77 PA15, 78 PC10, 79 PC11, 80 PC12, 81 PD0, 82 PD1, 83 PD2, 84 PD3, 85 PD4, 86 PD5, 87 PD6, 88 PD7, 89 PB3, 90 PB4, 91 PB5, 92 PB6, 93 PB7, 94 PH3, 95 PB8, 96 PB9, 97 PE0, 98 PE1, 99 VSS, 100 VDD

## STM32U599VJTxQ
designator *  value STM32U599VJTxQ  Reference: U
STMicroelectronics Arm Cortex-M33 MCU, 4096KB flash, 2514KB RAM, 79 GPIO, LQFP100; ki_keywords: Arm Cortex-M33 STM32U5 STM32U5x9; ki_fp_filters: LQFP*14x14mm*P0.5mm*; Footprint: Package_QFP:LQFP-100_14x14mm_P0.5mm; Datasheet: https://www.st.com/resource/en/datasheet/stm32u599vj.pdf; Description_: STMicroelectronics Arm Cortex-M33 MCU, 4096KB flash, 2514KB RAM, 79 GPIO, LQFP100
pins: 1 PE2, 2 PE3, 3 PE4, 4 PE5, 5 PE6, 6 VBAT, 7 PC13, 8 PC14, 9 PC15, 10 VSS, 11 VDD, 12 PH0, 13 PH1, 14 NRST, 15 PC0, 16 PC1, 17 PC2, 18 PC3, 19 VSSA, 20 VREF+, 21 VDDA, 22 PA0, 23 PA1, 24 PA2, 25 PA3, 26 VSS, 27 VDD, 28 PA4, 29 PA5, 30 PA6, 31 PA7, 32 PB0, 33 PB1, 34 PB2, 35 PE7, 36 PE8, 37 PE9, 38 PE10, 39 PE11, 40 PE12, 41 PE13, 42 PE14, 43 PE15, 44 PB10, 45 PB11, 46 VLXSMPS, 47 VDDSMPS, 48 VSSSMPS, 49 VDD11, 50 VSS, 51 VDD, 52 PB13, 53 PB14, 54 PB15, 55 PD8, 56 PD9, 57 PD10, 58 PD11, 59 PD12, 60 PD13, 61 PD14, 62 PD15, 63 PC6, 64 PC7, 65 PC8, 66 PC9, 67 PA8, 68 PA9, 69 PA10, 70 PA11, 71 PA12, 72 PA13, 73 VDDUSB, 74 VSS, 75 VDD, 76 PA14, 77 PA15, 78 PC10, 79 PC11, 80 PC12, 81 PD0, 82 PD1, 83 PD2, 84 PD3, 85 PD4, 86 PD5, 87 PD6, 88 PD7, 89 PB3, 90 PB4, 91 PB5, 92 PB6, 93 PB7, 94 PH3, 95 PB8, 96 PB9, 97 PE0, 98 VDD11, 99 VSS, 100 VDD

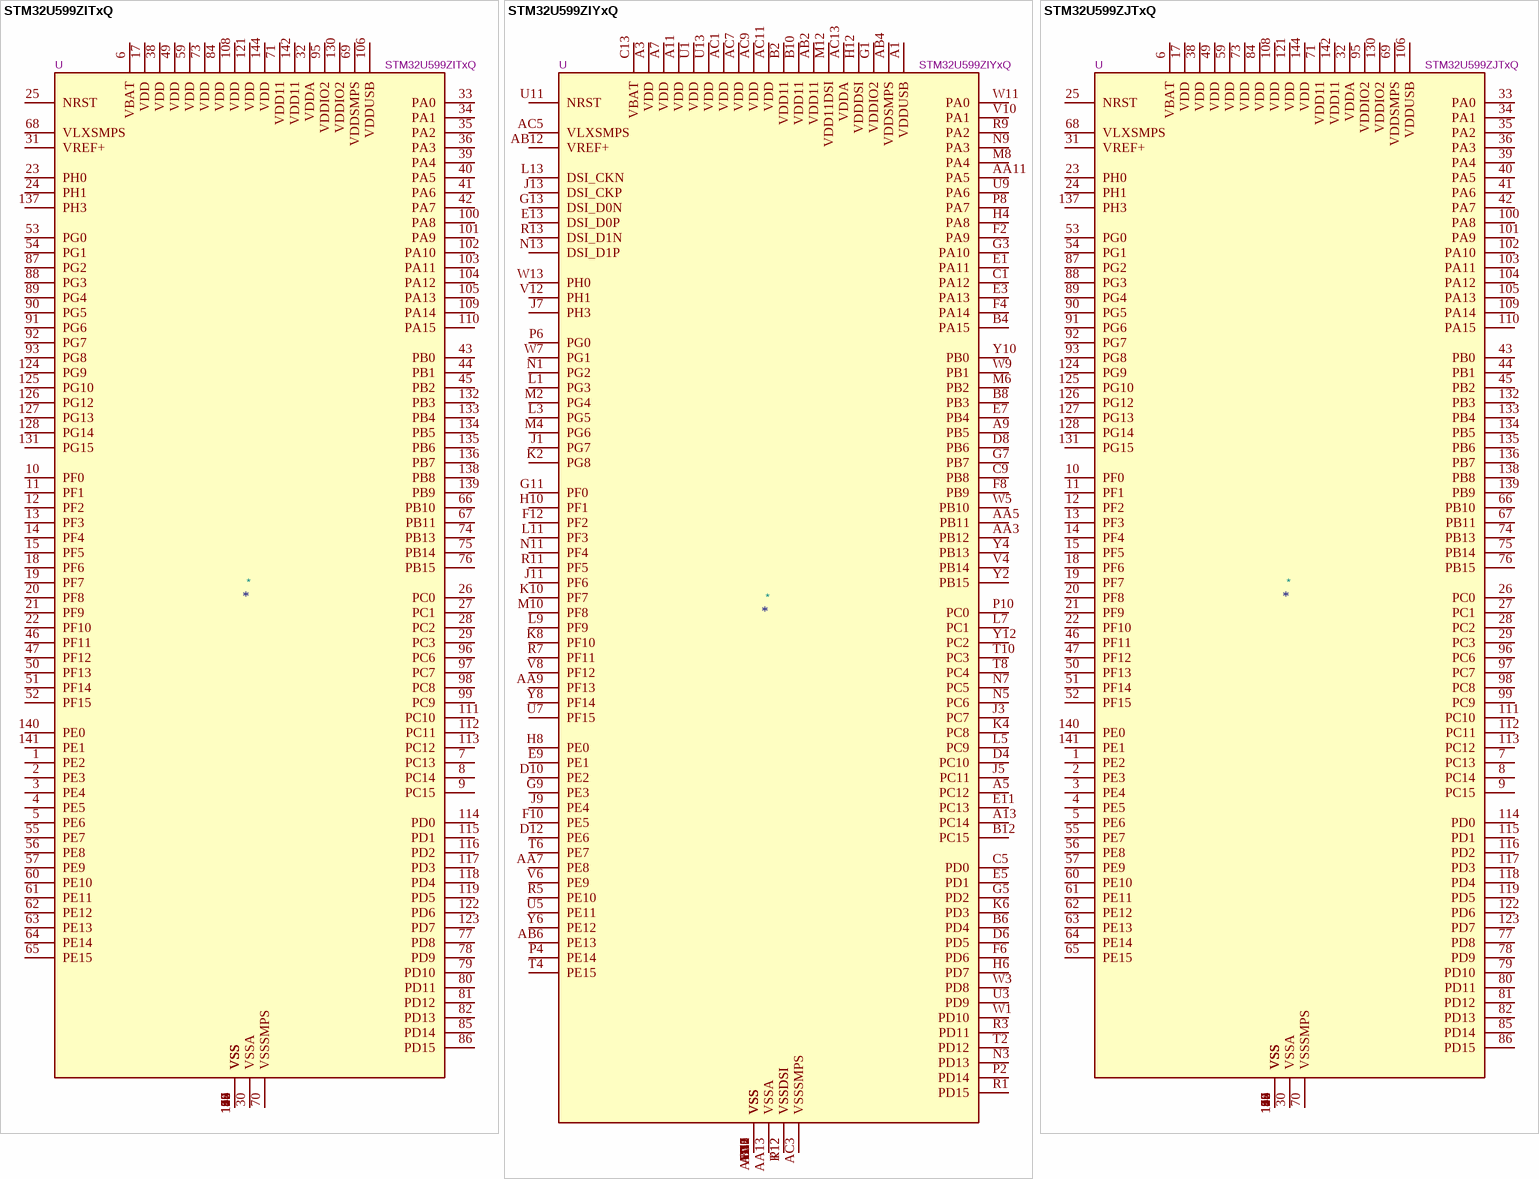
[diagram p39: symbols STM32U599ZITxQ to STM32U599ZJTxQ]

## STM32U599ZITxQ
designator *  value STM32U599ZITxQ  Reference: U
STMicroelectronics Arm Cortex-M33 MCU, 2048KB flash, 2514KB RAM, 111 GPIO, LQFP144; ki_keywords: Arm Cortex-M33 STM32U5 STM32U5x9; ki_fp_filters: LQFP*20x20mm*P0.5mm*; Footprint: Package_QFP:LQFP-144_20x20mm_P0.5mm; Datasheet: https://www.st.com/resource/en/datasheet/stm32u599zi.pdf; Description_: STMicroelectronics Arm Cortex-M33 MCU, 2048KB flash, 2514KB RAM, 111 GPIO, LQFP144
pins: 1 PE2, 2 PE3, 3 PE4, 4 PE5, 5 PE6, 6 VBAT, 7 PC13, 8 PC14, 9 PC15, 10 PF0, 11 PF1, 12 PF2, 13 PF3, 14 PF4, 15 PF5, 16 VSS, 17 VDD, 18 PF6, 19 PF7, 20 PF8, 21 PF9, 22 PF10, 23 PH0, 24 PH1, 25 NRST, 26 PC0, 27 PC1, 28 PC2, 29 PC3, 30 VSSA, 31 VREF+, 32 VDDA, 33 PA0, 34 PA1, 35 PA2, 36 PA3, 37 VSS, 38 VDD, 39 PA4, 40 PA5, 41 PA6, 42 PA7, 43 PB0, 44 PB1, 45 PB2, 46 PF11, 47 PF12, 48 VSS, 49 VDD, 50 PF13, 51 PF14, 52 PF15, 53 PG0, 54 PG1, 55 PE7, 56 PE8, 57 PE9, 58 VSS, 59 VDD, 60 PE10, 61 PE11, 62 PE12, 63 PE13, 64 PE14, 65 PE15, 66 PB10, 67 PB11, 68 VLXSMPS, 69 VDDSMPS, 70 VSSSMPS, 71 VDD11, 72 VSS, 73 VDD, 74 PB13, 75 PB14, 76 PB15, 77 PD8, 78 PD9, 79 PD10, 80 PD11, 81 PD12, 82 PD13, 83 VSS, 84 VDD, 85 PD14, 86 PD15, 87 PG2, 88 PG3, 89 PG4, 90 PG5, 91 PG6, 92 PG7, 93 PG8, 94 VSS, 95 VDDIO2, 96 PC6, 97 PC7, 98 PC8, 99 PC9, 100 PA8, 101 PA9, 102 PA10, 103 PA11, 104 PA12, 105 PA13, 106 VDDUSB, 107 VSS, 108 VDD, 109 PA14, 110 PA15, 111 PC10, 112 PC11, 113 PC12, 114 PD0, 115 PD1, 116 PD2, 117 PD3, 118 PD4, 119 PD5, 120 VSS, 121 VDD, 122 PD6, 123 PD7, 124 PG9, 125 PG10, 126 PG12, 127 PG13, 128 PG14, 129 VSS, 130 VDDIO2, 131 PG15, 132 PB3, 133 PB4, 134 PB5, 135 PB6, 136 PB7, 137 PH3, 138 PB8, 139 PB9, 140 PE0, 141 PE1, 142 VDD11, 143 VSS, 144 VDD

## STM32U599ZIYxQ
designator *  value STM32U599ZIYxQ  Reference: U
STMicroelectronics Arm Cortex-M33 MCU, 2048KB flash, 2514KB RAM, 108 GPIO, WLCSP150; ki_keywords: Arm Cortex-M33 STM32U5 STM32U5x9; ki_fp_filters: ST*WLCSP*5.38x5.47mm*Layout13x23*P0.4mm*Stagger*; Footprint: Package_CSP:ST_WLCSP-150_5.38x5.47mm_Layout13x23_P0.4mm_Stagger; Datasheet: https://www.st.com/resource/en/datasheet/stm32u599zi.pdf; Description_: STMicroelectronics Arm Cortex-M33 MCU, 2048KB flash, 2514KB RAM, 108 GPIO, WLCSP150
pins: A1 VDDUSB, A3 VDD, A5 PC12, A7 VDD, A9 PB5, A11 VDD, A13 PC14, AA1 VSS, AA3 PB12, AA5 PB11, AA7 PE8, AA9 PF13, AA11 PA5, AA13 VSSA, AB2 VDD11, AB4 VDDSMPS, AB6 PE13, AB8 VSS, AB10 VSS, AB12 VREF+, AC1 VDD, AC3 VSSSMPS, AC5 VLXSMPS, AC7 VDD, AC9 VDD, AC11 VDD, AC13 VDDA, B2 VDD11, B4 PA15, B6 PD4, B8 PB3, B10 VDD11, B12 PC15, C1 PA12, C3 VSS, C5 PD0, C7 VSS, C9 PB8, C11 VSS, C13 VBAT, D2 VSS, D4 PC10, D6 PD5, D8 PB6, D10 PE2, D12 PE6, E1 PA11, E3 PA13, E5 PD1, E7 PB4, E9 PE1, E11 PC13, E13 DSI_D0P, F2 PA9, F4 PA14, F6 PD6, F8 PB9, F10 PE5, F12 PF2, G1 VDDIO2, G3 PA10, G5 PD2, G7 PB7, G9 PE3, G11 PF0, G13 DSI_D0N, H2 VSS, H4 PA8, H6 PD7, H8 PE0, H10 PF1, H12 VDDDSI, J1 PG7, J3 PC7, J5 PC11, J7 PH3, J9 PE4, J11 PF6, J13 DSI_CKP, K2 PG8, K4 PC8, K6 PD3, K8 PF10, K10 PF7, K12 VSSDSI, L1 PG3, L3 PG5, L5 PC9, L7 PC1, L9 PF9, L11 PF3, L13 DSI_CKN, M2 PG4, M4 PG6, M6 PB2, M8 PA4, M10 PF8, M12 VDD11DSI, N1 PG2, N3 PD13, N5 PC6, N7 PC5, N9 PA3, N11 PF4, N13 DSI_D1P, P2 PD14, P4 PE14, P6 PG0, P8 PA7, P10 PC0, P12 VSSDSI, R1 PD15, R3 PD11, R5 PE10, R7 PF11, R9 PA2, R11 PF5, R13 DSI_D1N, T2 PD12, T4 PE15, T6 PE7, T8 PC4, T10 PC3, T12 VSS, U1 VDD, U3 PD9, U5 PE11, U7 PF15, U9 PA6, U11 NRST, U13 VDD, V2 VSS, V4 PB14, V6 PE9, V8 PF12, V10 PA1, V12 PH1, W1 PD10, W3 PD8, W5 PB10, W7 PG1, W9 PB1, W11 PA0, W13 PH0, Y2 PB15, Y4 PB13, Y6 PE12, Y8 PF14, Y10 PB0, Y12 PC2

## STM32U599ZJTxQ
designator *  value STM32U599ZJTxQ  Reference: U
STMicroelectronics Arm Cortex-M33 MCU, 4096KB flash, 2514KB RAM, 160 MHz, 1.71-3.6V, 111 GPIO, LQFP144; ki_keywords: Arm Cortex-M33 STM32U5 STM32U599/5A9; ki_fp_filters: LQFP*20x20mm*P0.5mm*; Footprint: Package_QFP:LQFP-144_20x20mm_P0.5mm; Datasheet: https://www.st.com/resource/en/datasheet/stm32u599zj.pdf; Description_: STMicroelectronics Arm Cortex-M33 MCU, 4096KB flash, 2514KB RAM, 160 MHz, 1.71-3.6V, 111 GPIO, LQFP144
pins: 1 PE2, 2 PE3, 3 PE4, 4 PE5, 5 PE6, 6 VBAT, 7 PC13, 8 PC14, 9 PC15, 10 PF0, 11 PF1, 12 PF2, 13 PF3, 14 PF4, 15 PF5, 16 VSS, 17 VDD, 18 PF6, 19 PF7, 20 PF8, 21 PF9, 22 PF10, 23 PH0, 24 PH1, 25 NRST, 26 PC0, 27 PC1, 28 PC2, 29 PC3, 30 VSSA, 31 VREF+, 32 VDDA, 33 PA0, 34 PA1, 35 PA2, 36 PA3, 37 VSS, 38 VDD, 39 PA4, 40 PA5, 41 PA6, 42 PA7, 43 PB0, 44 PB1, 45 PB2, 46 PF11, 47 PF12, 48 VSS, 49 VDD, 50 PF13, 51 PF14, 52 PF15, 53 PG0, 54 PG1, 55 PE7, 56 PE8, 57 PE9, 58 VSS, 59 VDD, 60 PE10, 61 PE11, 62 PE12, 63 PE13, 64 PE14, 65 PE15, 66 PB10, 67 PB11, 68 VLXSMPS, 69 VDDSMPS, 70 VSSSMPS, 71 VDD11, 72 VSS, 73 VDD, 74 PB13, 75 PB14, 76 PB15, 77 PD8, 78 PD9, 79 PD10, 80 PD11, 81 PD12, 82 PD13, 83 VSS, 84 VDD, 85 PD14, 86 PD15, 87 PG2, 88 PG3, 89 PG4, 90 PG5, 91 PG6, 92 PG7, 93 PG8, 94 VSS, 95 VDDIO2, 96 PC6, 97 PC7, 98 PC8, 99 PC9, 100 PA8, 101 PA9, 102 PA10, 103 PA11, 104 PA12, 105 PA13, 106 VDDUSB, 107 VSS, 108 VDD, 109 PA14, 110 PA15, 111 PC10, 112 PC11, 113 PC12, 114 PD0, 115 PD1, 116 PD2, 117 PD3, 118 PD4, 119 PD5, 120 VSS, 121 VDD, 122 PD6, 123 PD7, 124 PG9, 125 PG10, 126 PG12, 127 PG13, 128 PG14, 129 VSS, 130 VDDIO2, 131 PG15, 132 PB3, 133 PB4, 134 PB5, 135 PB6, 136 PB7, 137 PH3, 138 PB8, 139 PB9, 140 PE0, 141 PE1, 142 VDD11, 143 VSS, 144 VDD

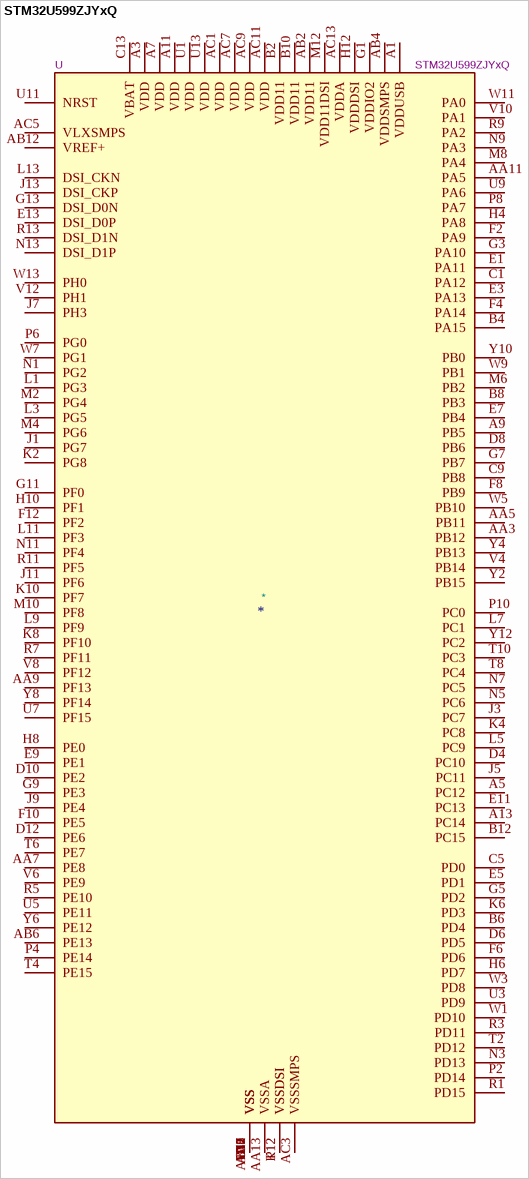
[diagram p40: symbol STM32U599ZJYxQ]

## STM32U599ZJYxQ
designator *  value STM32U599ZJYxQ  Reference: U
STMicroelectronics Arm Cortex-M33 MCU, 4096KB flash, 2514KB RAM, 108 GPIO, WLCSP150; ki_keywords: Arm Cortex-M33 STM32U5 STM32U5x9; ki_fp_filters: ST*WLCSP*5.38x5.47mm*Layout13x23*P0.4mm*Stagger*; Footprint: Package_CSP:ST_WLCSP-150_5.38x5.47mm_Layout13x23_P0.4mm_Stagger; Datasheet: https://www.st.com/resource/en/datasheet/stm32u599zj.pdf; Description_: STMicroelectronics Arm Cortex-M33 MCU, 4096KB flash, 2514KB RAM, 108 GPIO, WLCSP150
pins: A1 VDDUSB, A3 VDD, A5 PC12, A7 VDD, A9 PB5, A11 VDD, A13 PC14, AA1 VSS, AA3 PB12, AA5 PB11, AA7 PE8, AA9 PF13, AA11 PA5, AA13 VSSA, AB2 VDD11, AB4 VDDSMPS, AB6 PE13, AB8 VSS, AB10 VSS, AB12 VREF+, AC1 VDD, AC3 VSSSMPS, AC5 VLXSMPS, AC7 VDD, AC9 VDD, AC11 VDD, AC13 VDDA, B2 VDD11, B4 PA15, B6 PD4, B8 PB3, B10 VDD11, B12 PC15, C1 PA12, C3 VSS, C5 PD0, C7 VSS, C9 PB8, C11 VSS, C13 VBAT, D2 VSS, D4 PC10, D6 PD5, D8 PB6, D10 PE2, D12 PE6, E1 PA11, E3 PA13, E5 PD1, E7 PB4, E9 PE1, E11 PC13, E13 DSI_D0P, F2 PA9, F4 PA14, F6 PD6, F8 PB9, F10 PE5, F12 PF2, G1 VDDIO2, G3 PA10, G5 PD2, G7 PB7, G9 PE3, G11 PF0, G13 DSI_D0N, H2 VSS, H4 PA8, H6 PD7, H8 PE0, H10 PF1, H12 VDDDSI, J1 PG7, J3 PC7, J5 PC11, J7 PH3, J9 PE4, J11 PF6, J13 DSI_CKP, K2 PG8, K4 PC8, K6 PD3, K8 PF10, K10 PF7, K12 VSSDSI, L1 PG3, L3 PG5, L5 PC9, L7 PC1, L9 PF9, L11 PF3, L13 DSI_CKN, M2 PG4, M4 PG6, M6 PB2, M8 PA4, M10 PF8, M12 VDD11DSI, N1 PG2, N3 PD13, N5 PC6, N7 PC5, N9 PA3, N11 PF4, N13 DSI_D1P, P2 PD14, P4 PE14, P6 PG0, P8 PA7, P10 PC0, P12 VSSDSI, R1 PD15, R3 PD11, R5 PE10, R7 PF11, R9 PA2, R11 PF5, R13 DSI_D1N, T2 PD12, T4 PE15, T6 PE7, T8 PC4, T10 PC3, T12 VSS, U1 VDD, U3 PD9, U5 PE11, U7 PF15, U9 PA6, U11 NRST, U13 VDD, V2 VSS, V4 PB14, V6 PE9, V8 PF12, V10 PA1, V12 PH1, W1 PD10, W3 PD8, W5 PB10, W7 PG1, W9 PB1, W11 PA0, W13 PH0, Y2 PB15, Y4 PB13, Y6 PE12, Y8 PF14, Y10 PB0, Y12 PC2